# Altium schematic symbol library MP24833-AGN-Z.SchLib: 1 symbol
Pins are listed as number, name and electrical type; pins without a type are passive.

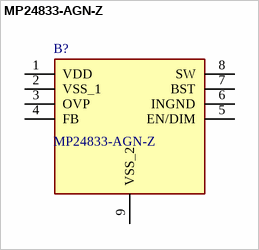
[diagram p0: symbol MP24833-AGN-Z]

## MP24833-AGN-Z
designator B?
LED Lighting Drivers 3A 200kHz Internal Power MOSFET; Manufacturer_Name: Monolithic Power Systems (MPS); Geometry.Height: 1.7mm; Manufacturer_Part_Number: MP24833-AGN-Z; Mouser Part Number: 946-MP24833-AGN-Z; Mouser Price/Stock: https://www.mouser.co.uk/ProductDetail/Monolithic-Power-Systems-MPS/MP24833-AGN-Z?qs=cslStgdnz9M1gG6C9BalrA%3D%3D; Arrow Part Number: *; Arrow Price/Stock: *; Datasheet Link: https://www.monolithicpower.com/pub/media/document/MP24833-A_r1.01.pdf
footprint SOIC127P600X170-9N
pins: 1 VDD (power), 2 VSS_1, 3 OVP, 4 FB, 5 EN/DIM, 6 INGND, 7 BST, 8 SW, 9 VSS_2